# Altium schematic symbol library TransientBLE.SCHLIB: 64 symbols (part 1 of 2)
Pins are listed as number, name and electrical type; pins without a type are passive.

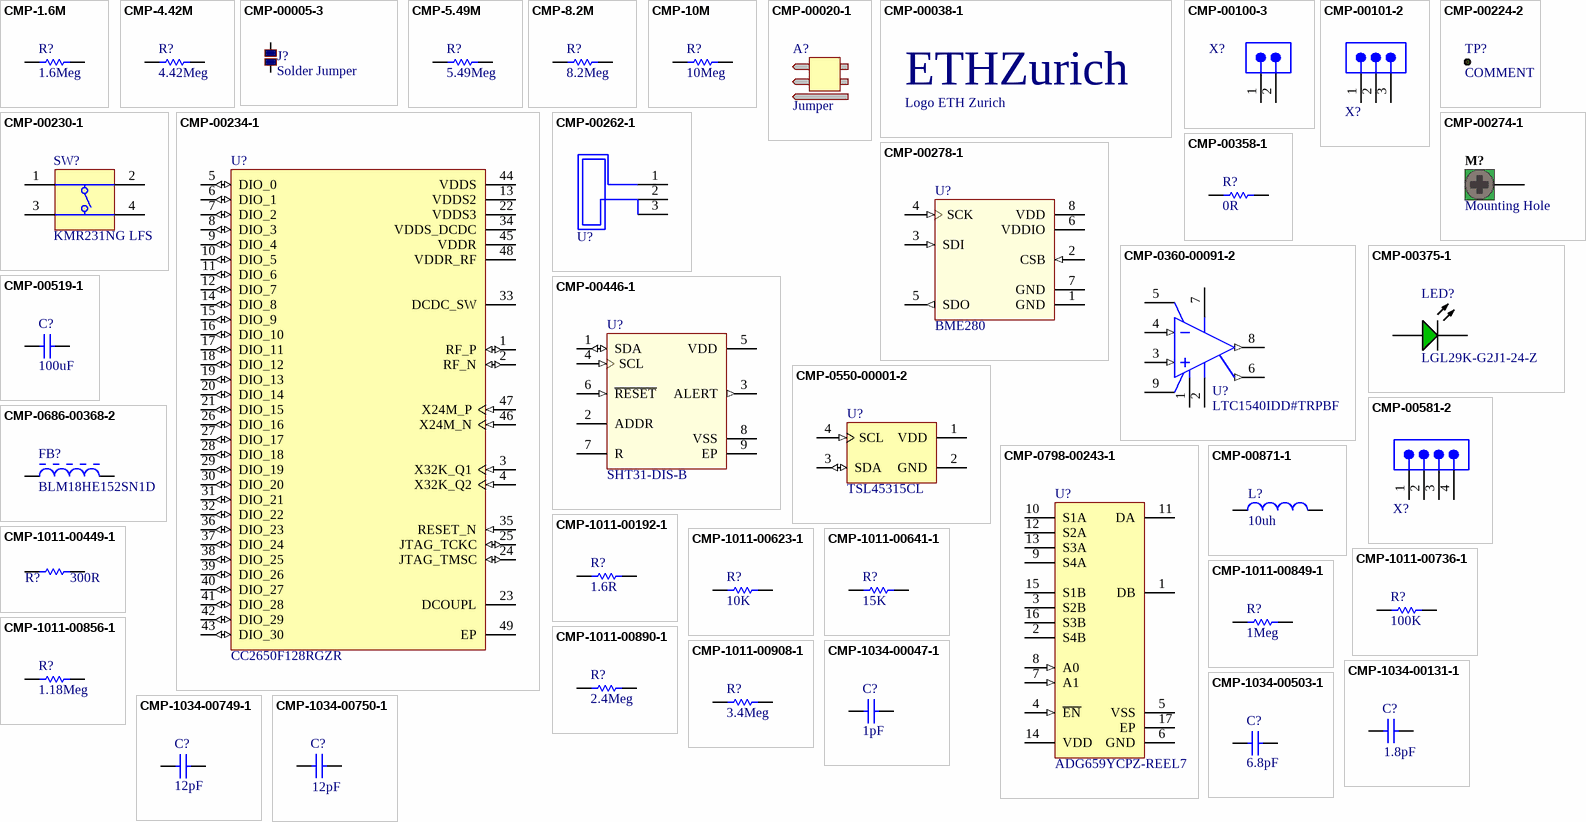
[diagram p0: symbols CMP-1.6M to CMP-1034-00750-1]

## CMP-1.6M
designator R?, comment value 1.6Meg  (hidden comment: 1.6M 1% 0402(1005))
1.6M 0.063W 1% 0402 (1005 Metric)  SMD; Case-EIA: 0402; Case-Metric: 1005; Power: 0.063 W; Tolerance: 1 %; Technology: SMT
footprint RESC0402(1005)_N (Chip Resistor, Body 1.0x0.5mm, IPC Medium Density)
footprint RESC0402(1005)_M (Chip Resistor, Body 1.0x0.5mm, IPC Low Density)
footprint RESC0402(1005)_L (Chip Resistor, Body 1.0x0.5mm, IPC High Density)
pins: 1, 2
1 alternate drawing of the same symbol

## CMP-4.42M
designator R?, comment value 4.42Meg  (hidden comment: 4.42M 1% 0402(1005))
4.42M 0.063W 1% 0402 (1005 Metric)  SMD; Case-EIA: 0402; Case-Metric: 1005; Power: 0.063 W; Tolerance: 1 %; Technology: SMT
footprint RESC0402(1005)_N (Chip Resistor, Body 1.0x0.5mm, IPC Medium Density)
footprint RESC0402(1005)_M (Chip Resistor, Body 1.0x0.5mm, IPC Low Density)
footprint RESC0402(1005)_L (Chip Resistor, Body 1.0x0.5mm, IPC High Density)
pins: 1, 2
1 alternate drawing of the same symbol

## CMP-00005-3
designator J?, comment Solder Jumper
Value: 1; Technology: SMT
simulation model SIM-001-0001-1 (Resistor generic model)
footprint Small Solder Jumper (Small Solder Jumper (shortcut with a drop of tin if needed))
footprint Big Solder Jumper (Big Solder Jumper (shortcut with a drop of tin if needed))
pins: 1, 2

## CMP-5.49M
designator R?, comment value 5.49Meg  (hidden comment: 5.49M 1% 0402(1005))
5.49M 0.063W 1% 0402 (1005 Metric)  SMD; Case-EIA: 0402; Case-Metric: 1005; Power: 0.063 W; Tolerance: 1 %; Technology: SMT
footprint RESC0402(1005)_N (Chip Resistor, Body 1.0x0.5mm, IPC Medium Density)
footprint RESC0402(1005)_M (Chip Resistor, Body 1.0x0.5mm, IPC Low Density)
footprint RESC0402(1005)_L (Chip Resistor, Body 1.0x0.5mm, IPC High Density)
pins: 1, 2
1 alternate drawing of the same symbol

## CMP-8.2M
designator R?, comment value 8.2Meg  (hidden comment: 8.2M 1% 0402(1005))
8.2M 0.1W 1% 0402 (1005 Metric)  SMD; Case-EIA: 0402; Case-Metric: 1005; Power: 0.1 W; Tolerance: 1 %; Technology: SMT
footprint RESC0402(1005)_N (Chip Resistor, Body 1.0x0.5mm, IPC Medium Density)
footprint RESC0402(1005)_M (Chip Resistor, Body 1.0x0.5mm, IPC Low Density)
footprint RESC0402(1005)_L (Chip Resistor, Body 1.0x0.5mm, IPC High Density)
pins: 1, 2
1 alternate drawing of the same symbol

## CMP-10M
designator R?, comment value 10Meg  (hidden comment: 10M 1% 0402(1005))
10M 0.063W 1% 0402 (1005 Metric)  SMD; Case-EIA: 0402; Case-Metric: 1005; Power: 0.063 W; Tolerance: 1 %; Technology: SMT
footprint RESC0402(1005)_N (Chip Resistor, Body 1.0x0.5mm, IPC Medium Density)
footprint RESC0402(1005)_M (Chip Resistor, Body 1.0x0.5mm, IPC Low Density)
footprint RESC0402(1005)_L (Chip Resistor, Body 1.0x0.5mm, IPC High Density)
pins: 1, 2
1 alternate drawing of the same symbol

## CMP-00020-1
designator A?, comment Jumper  (mechanical)
Jumper Receptacle 2.54mm; Size: 2.54mm

## CMP-00038-1
designator A?, comment Logo ETH Zurich  (no BOM)
footprint eth-zurich_3mm (Logo ETH Zurich)
footprint eth-zurich_2mm (Logo ETH Zurich)
footprint eth-zurich_4mm (Logo ETH Zurich)
footprint eth-zurich_5mm (Logo ETH Zurich)
text: ETHZurich

## CMP-00100-3
designator X?, comment 68000-102HLF  (value not drawn)
Manufacturer: Amphenol FCI; Pitch: 2.54mm; Number of Positions: 2; Connector Type: Male Pin; Current Rating: 3A; Gender: Male; Insulation Resistance: 5GR; Mating Post Length: 5.84mm; Max Voltage Rating (AC): 1.5kV; Packaging: Bulk; Supplier: Digikey; Supplier Part Number: 609-3500-ND; ComponentLink1Description: 68000-274228-5149165.pdf; ComponentLink1URL: https://datasheet.ciiva.com/5149/68000-274228-5149165.pdf; Manufacturer Part Number: 68000-102HLF; Number of Rows: 1; Termination: Solder; Contact Mating Length: 0.23inch; Case/Package: 100; Colour: Black; ComponentLink2Description: 68000-722084.pdf; ComponentLink2URL: https://datasheet.ciiva.com/722/68000-722084.pdf; ComponentLink3Description: 68000-10149324.pdf; ComponentLink3URL: https://datasheet.ciiva.com/10149/68000-10149324.pdf; ComponentLink4Description: 68000-16726309.pdf; ComponentLink4URL: https://datasheet.ciiva.com/16726/68000-16726309.pdf; Contact Gender: Male; Contact Material: Bronze; Contact Plating: Nickel,Gold,GXT; Depth: 2.41mm; Flammability Rating: UL94 V-0; Housing Colour: Black; Housing Material: Thermoplastic; Lead Free: Lead Free; Length: 5.08mm; Max Operating Temperature: 125°C; Min Operating Temperature: -65°C; Number of Contacts: 2; Orientation: Straight; Package Quantity: 100; Radiation Hardening: No; Termination Post Length: 2.41mm; Voltage Rating: 1.5kV; Voltage Rating (DC): 1.5kV
footprint 68000-102HLF (Terminal Assembly, 1x2 Pins, Vertical, 2.54mm Pitch, Male)
pins: 1, 2

## CMP-00101-2
designator X?, comment 68000-103HLF  (value not drawn)
3 Positions Header, Unshrouded Connector 0.100" (2.54mm) Through Hole Gold or Gold, GXT™; Manufacturer: Amphenol FCI; Current Rating: 3A; Insulation Resistance: 5GR; Number of Positions: 3; Max Voltage Rating (AC): 1.5kV; Termination: Solder; Fastening Type: -; Features: -; Contact Finish: Gold or Gold, GXT™; Contact Finish Thickness: 15µin (0.38µm); Color: Black; Supplier: Digikey; Supplier Part Number: 609-3461-ND; ComponentLink1Description: 68000-274283-5157301.pdf; ComponentLink1URL: https://datasheet.ciiva.com/5157/68000-274283-5157301.pdf; Depth: 2.41mm; Flammability Rating: UL94 V-0; Housing Colour: Black; Housing Material: Thermoplastic; Length: 7.62mm; Manufacturer Part Number: 68000-103HLF; Max Operating Temperature: 125°C; Packaging: Bulk; Contact Type: Male Pin; Connector Type: Header, Unshrouded; Pitch: 2.54mm; Number of Rows: 1; Contact Mating Length: 0.230" (5.84mm); Mounting Type: Through Hole; Min Operating Temperature: -65°C; Number of Contacts: 3; Orientation: Straight; Package Quantity: 100; Radiation Hardening: No; REACH SVHC: No SVHC; Termination Post Length: 2.41mm; Voltage Rating: 1.5kV; Contact Gender: Male; Contact Material: Bronze; Contact Plating: Nickel,Gold,GXT; ComponentLink2Description: 68000-731071.pdf; ComponentLink2URL: https://datasheet.ciiva.com/731/68000-731071.pdf; ComponentLink3Description: 68000-10149754.pdf; ComponentLink3URL: https://datasheet.ciiva.com/10149/68000-10149754.pdf; ComponentLink4Description: 1914865-46392021.pdf; ComponentLink4URL: https://datasheet.ciiva.com/46392/1914865-46392021.pdf
footprint 68000-103HLF (Terminal Assembly, 3 Pin, Vertical, 2.54mm Pitch, Male)
pins: 1, 2, 3

## CMP-00224-2
designator TP?, comment COMMENT  (no BOM)
0.6mm SMT Test Pad; Mounting Technology: SMT
footprint Pad-0.6mm (SMT Test Pad)
pins: 1 "Reserved. Connect to VDDIO."

## CMP-00230-1
designator SW?, comment KMR231NG LFS
SWITCH TACTILE SPST-NO 0.05A 32V; Manufacturer: C&K Components; Switch Function: Off-Mom; Contact Rating @ Voltage: 0.05A @ 32VDC; Actuator Type: Standard; Actuator Height off PCB, from Pins: 1.90mm; Actuator Orientation: Top Actuated; Outline: 4.60mm x 2.80mm; Illumination: Non-Illuminated; Operating Force: 300gf; Switch Travel: 0.25mm; Mechanical Life: 150,000 Cycles; Packaging: Cut Tape (CT); Part Status: Active; Circuit: SPST-NO; Mounting Type: Surface Mount; Termination Style: Gull Wing; Illumination Voltage (Nominal): -; Illumination Type, Color: -; Ingress Protection: -; Features: -; Actuator Material: -; Operating Temperature: -40°C ~ 85°C; Manufacturer Part Number: KMR231NG LFS; Supplier: Digi-Key; Supplier Part Number: CKN10246CT-ND; ComponentLink1Description: kmr2.pdf; ComponentLink1URL: http://www.ck-components.com/media/1479/kmr2.pdf
footprint KRM 2 Series (Tactile Switch SPST-NO Top Actuated Surface Mount)
pins: 1 T1, 2 T2, 3 T3, 4 T3

## CMP-00234-1
designator U?, comment CC2650F128RGZR
IC RF TxRx + MCU 802.15.4, Bluetooth 6LoWPAN, Bluetooth v4.1, Zigbee® 2.4GHz 48-VFQFN Exposed Pad; Manufacturer: Texas Instruments; Modulation: DSSS, O-QPSK, GFSK; Data Rate (Max): 1Mbps; Power - Output: 5dBm; Sensitivity: -100dBm; Memory Size: 128kB Flash, 28kB SRAM; Serial Interfaces: I²C, I²S, JTAG, SPI, UART; GPIO: 31; Voltage - Supply: 1.8 V ~ 3.8 V; Current - Receiving: 5.9mA ~ 6.1mA; Current - Transmitting: 6.1mA ~ 9.1mA; Packaging: Cut Tape (CT); Part Status: Active; Type: TxRx + MCU; RF Family/Standard: 802.15.4, Bluetooth; Protocol: 6LoWPAN, Bluetooth v4.1, Zigbee®; Frequency: 2.4GHz; Operating Temperature: -40°C ~ 85°C; Package / Case: 48-VFQFN Exposed Pad; Manufacturer Part Number: CC2650F128RGZR; Supplier: Digi-Key; Supplier Part Number: 296-44316-1-ND; ComponentLink1Description: cc2650; ComponentLink1URL: http://www.ti.com/lit/gpn/cc2650
footprint VFQFPN-48(7x7)_N (QFN, 48-Leads, Body 7x7mm, Pitch 0.5mm, Thermal Pad 5.15x5.15mm, IPC Medium Density)
footprint VFQFPN-48(7x7)_L (QFN, 48-Leads, Body 7x7mm, Pitch 0.5mm, Thermal Pad 5.15x5.15mm, IPC High Density)
footprint VFQFPN-48(7x7)_M (QFN, 48-Leads, Body 7x7mm, Pitch 0.5mm, Thermal Pad 5.15x5.15mm, IPC Low Density)
pins: 1 RF_P (io), 2 RF_N (io), 3 X32K_Q1 (in), 4 X32K_Q2 (in), 5 DIO_0 (io), 6 DIO_1 (io), 7 DIO_2 (io), 8 DIO_3 (io), 9 DIO_4 (io), 10 DIO_5 (io), 11 DIO_6 (io), 12 DIO_7 (io), 13 VDDS2 (power), 14 DIO_8 (io), 15 DIO_9 (io), 16 DIO_10 (io), 17 DIO_11 (io), 18 DIO_12 (io), 19 DIO_13 (io), 20 DIO_14 (io), 21 DIO_15 (io), 22 VDDS3 (power), 23 DCOUPL, 24 JTAG_TMSC (io), 25 JTAG_TCKC (io), 26 DIO_16 (io), 27 DIO_17 (io), 28 DIO_18 (io), 29 DIO_19 (io), 30 DIO_20 (io), 31 DIO_21 (io), 32 DIO_22 (io), 33 DCDC_SW (power), 34 VDDS_DCDC (power), 35 RESET_N (in), 36 DIO_23 (io), 37 DIO_24 (io), 38 DIO_25 (io), 39 DIO_26 (io), 40 DIO_27 (io), 41 DIO_28 (io), 42 DIO_29 (io), 43 DIO_30 (io), 44 VDDS (power), 45 VDDR (power), 46 X24M_N (in), 47 X24M_P (in), 48 VDDR_RF (power), 49 EP (power)

## CMP-00262-1
designator U?, comment Antenna Patch  (value not drawn)  (net tie, no BOM)
2.4GHz Inverted F Antenna; Technology: SMT
footprint 2.4GHz Inverted F Antenna (Antenna Patch, 2 pins, 1 side)
pins: 1, 2, 3

## CMP-00274-1
designator M?, comment Mounting Hole  (no BOM)
M2 Hole, 2.4mm drill, 5mm landing pads, 3mm pad in middle layers, no overlay; ClassName: Mounting Hole
footprint Hole M2 (M2 Hole, 2.4mm drill, 5mm landing pads, 3mm pad in middle layers, no overlay)
pins: 1

## CMP-00278-1
designator U?, comment BME280
PRESSURE HUMIDITY TEMP GAS SENS; Manufacturer: Bosch Sensortec; Pressure Type: Vented Gauge; Operating Pressure: 4.35 PSI ~ 15.95 PSI (30 kPa ~ 110 kPa); Output Type: I²C, SPI; Output: 16b; Accuracy: ±0.145 PSI (±1 kPa); Voltage - Supply: 1.71 V ~ 3.6 V; Maximum Pressure: ±290.08 PSI (±2000 kPa); Part Status: Active; Port Size: -; Port Style: -; Features: Standby Mode; Termination Style: SMD (SMT) Tab; Operating Temperature: -40°C ~ 85°C; Package / Case: 8-SMD; Supplier Device Package: 8-SMD; Manufacturer Part Number: BME280; Supplier: Digi-Key; Supplier Part Number: 828-1063-2-ND; ComponentLink1Description: BST-BME280_DS001-11.pdf; ComponentLink1URL: https://ae-bst.resource.bosch.com/media/_tech/media/datasheets/BST-BME280_DS001-11.pdf
footprint BME280 (LGA, 8-Leads, Body 2x2.50mmx0.95mm, Pitch 0.65mm)
pins: 1 GND (power), 2 CSB (in), 3 SDI (in), 4 SCK (in), 5 SDO (out), 6 VDDIO (power), 7 GND (power), 8 VDD (power)

## CMP-00358-1
designator R?, comment value 0R  (hidden comment: ERJ-3GEY0R00V)
RES SMD 0.0OHM JUMPER 1/10W 0603; Manufacturer: Panasonic / Panasonic ECG; EDA / CAD Models: Download from Accelerated Designs; Resistance (Ohms): 0.0; Power (Watts): 0.1W, 1/10W; Online Catalog: ERJ Series; Other Names: P0.0GDKR; Standard Package: 1; Category: Resistors; Family: Chip Resistor - Surface Mount; Series: ERJ; Packaging: Digi-Reel®; Tolerance: Jumper; Composition: Thick Film; Features: Automotive AEC-Q200; Temperature Coefficient: -; Operating Temperature: -55°C ~ 155°C; Package / Case: 0603 (1608 Metric); Supplier Device Package: 0603; Number of Terminations: 2; Manufacturer Part Number: ERJ-3GEY0R00V; Supplier: Digikey; Supplier Part Number: P0.0GTR-ND; ComponentLink1Description: 0900766b80f806dd-11808207.pdf; ComponentLink1URL: https://datasheet.ciiva.com/11808/0900766b80f806dd-11808207.pdf; ComponentLink2Description: 1935748-27055113.pdf; ComponentLink2URL: https://datasheet.ciiva.com/27055/1935748-27055113.pdf; ComponentLink3Description: 4aoa0000ce1-30199822.pdf; ComponentLink3URL: https://datasheet.ciiva.com/30199/4aoa0000ce1-30199822.pdf; ComponentLink4Description: 1678796-46377868.pdf; ComponentLink4URL: https://datasheet.ciiva.com/46377/1678796-46377868.pdf; ComponentLink5Description: 70255313-16758527.pdf; ComponentLink5URL: https://datasheet.ciiva.com/16758/70255313-16758527.pdf; ComponentLink6Description: aoa0000ce1-9198975.pdf; ComponentLink6URL: https://datasheet.ciiva.com/9198/aoa0000ce1-9198975.pdf; ComponentLink7Description: aoa0000ce1-17215388.pdf; ComponentLink7URL: https://datasheet.ciiva.com/17215/aoa0000ce1-17215388.pdf; ComponentLink8Description: 1678796-43460647.pdf; ComponentLink8URL: https://datasheet.ciiva.com/43460/1678796-43460647.pdf; ComponentLink9Description: aoa0000ce1-48532165.pdf; ComponentLink9URL: https://datasheet.ciiva.com/48532/aoa0000ce1-48532165.pdf; ComponentLink10Description: 1678796-28695833.pdf; ComponentLink10URL: https://datasheet.ciiva.com/28695/1678796-28695833.pdf; ComponentLink11Description: aoa0000ce1-16834828.pdf; ComponentLink11URL: https://datasheet.ciiva.com/16834/aoa0000ce1-16834828.pdf; ComponentLink12Description: 1678796-5959707.pdf; ComponentLink12URL: https://datasheet.ciiva.com/5959/1678796-5959707.pdf
simulation model SIM-001-0001-1 (Resistor generic model)
footprint RESC0603(1608)_N (Chip Resistor, Body 1.6x0.8mm, IPC Medium Density)
footprint RESC0603(1608)_L (Chip Resistor, Body 1.6x0.8mm, IPC High Density)
footprint RESC0603(1608)_M (Chip Resistor, Body 1.6x0.8mm, IPC Low Density)
pins: 1, 2
1 alternate drawing of the same symbol

## CMP-0360-00091-2
designator U?, comment LTC1540IDD#TRPBF
Nanopower Comparator with Reference, 1 Channel, 2 to 11 V, -40 to +85 degC, 8-pin Plastic DFN (DD8), Tape and Reel; Manufacturer: Linear Technology; Channels (#): 1; Vos (mV) Guaranteed: 12; Vs Min (V): 2; Prop Delay (us): 50; Supply Current (uA) Typical: 0.3; Supply Voltage Range: 2 to 11 V; Vs Max (V): 11; Supply Current (uA) Guaranteed: 0.68; ComponentLink2URL: http://cds.linear.com/docs/en/datasheet/1540fas.pdf; PackageDescription: 8-Pin Plastic DFN, Body 3 Ã— 3 mm, Pitch 0.5 mm; ComponentLink1URL: http://www.linear.com/; Vos (mV) Typical: 12; Generic Part Number: LTC1540; ComponentLink3Description: Package Specification; Features: Reference, Comparator; ComponentLink3URL: http://cds.linear.com/docs/en/packaging/DFN_8_05-08-1698.pdf; PartNumber: LTC1540IDD#TRPBF; DatasheetVersion: Rev A; RoHS: Y; Mounting Technology: Surface Mount; Code_JEDEC: M0-229; ComponentLink2Description: Datasheet; PackageReference: DD8; ComponentLink1Description: Manufacturer URL
footprint LT-DD8_V (SON, 8-Leads, Body 3x3mm, Pitch 0.5mm, Thermal Pad 2.38x1.65mm)
pins: 1 GND (power) "Ground. Connect to V- for single supply operation.", 2 V- (power) "Negative Supply. Potential should be more negative than GND. Connect to ground for single supply operation.", 3 IN+ (in) "Noninverting Comparator Input. Input common mode range from V- to V+ -1.3V. Input current typically 10pA at 25degreesC.", 4 IN- (in) "Inverting Comparator Input. Input common mode range from V- to V+ -1.3V. Input current typically 10pA at 25degreesC.", 5 HYST "Hysteresis Input. Connect to REF if not used. Input voltage range is from VREF to VREF-50mV.", 6 REF (out) "Reference Output. 1.182V with respect to V-. Can source up to 1mA and sink 10uA at 25degreesC. Drive 0.01uF bypass capacitor without oscillation.", 7 V+ (power) "Positive Supply operating voltage is from 2V to 11V.", 8 OUT (out) "Comparator CMOS Output. Swings from GND to V+. Output can source up to 40mA and sink 5mA.", 9 EP (power) "Exposed Pad"

## CMP-00375-1
designator LED?, comment LGL29K-G2J1-24-Z
LED GREEN DIFFUSED 0603 SMD; Manufacturer: Osram / OSRAM Opto Semiconductors; Millicandela Rating: 3.92mcd; Voltage - Forward (Vf) Typ: 1.7V; Current - Test: 2mA; Wavelength - Dominant: 570nm; Wavelength - Peak: 572nm; Viewing Angle: 160°; Lens Style/Size: Rectangle with Flat Top, 1.3mm x 0.8mm; Luminous Flux @ Current - Test: 12 mlm; Dynamic Catalog: Surface Mount; Other Names: 475-2709-6; Standard Package: 1; Category: Optoelectronics; Family: LEDs - Discrete; Series: SmartLED; Color: Green; Lens Type: Diffused; Package / Case: 0603 (1608 Metric); Size / Dimension: 1.70mm L x 0.80mm W; Height: 0.65mm; Mounting Type: Surface Mount; Packaging: Digi-Reel®; Manufacturer Part Number: LGL29K-G2J1-24-Z; Supplier: Digikey; Supplier Part Number: 475-2709-1-ND; ComponentLink1Description: g-l29k-39844-4689584.pdf; ComponentLink1URL: https://datasheet.ciiva.com/4689/g-l29k-39844-4689584.pdf; ComponentLink2Description: 00077107-0-2112888.pdf; ComponentLink2URL: https://datasheet.ciiva.com/2112/00077107-0-2112888.pdf; ComponentLink3Description: 00077107-0-2112887.pdf; ComponentLink3URL: https://datasheet.ciiva.com/2112/00077107-0-2112887.pdf; ComponentLink4Description: 00077107-0-2112886.pdf; ComponentLink4URL: https://datasheet.ciiva.com/2112/00077107-0-2112886.pdf
footprint 0603_A (Chip LED, 2-Leads, Body 1.6x0.8mm, IPC Medium Density)
pins: 1 A, 2 K

## CMP-00446-1
designator U?, comment SHT31-DIS-B
Humidity Sensor, 2 %, 3.3 V, 0% to 100% Relative Humidity, TDFN, 8 Pins, 8 s; Manufacturer: Sensirion; Sensor Function: Temperature & Humidity; Output Type: Digital; Interface Type: I2C; Accuracy: ±0.3 (Temperature) °C, ±2 (Humidity) %RH; Minimum Operating Supply Voltage: 2.4 V; Maximum Operating Supply Voltage: 5.5 V; Resolution: 0.05 (Humidity) %RH, 0.05 (Temperature) °C; Mounting Type: Surface Mount; Pin Count: 8; Minimum Operating Temperature: -40 °C; Maximum Operating Temperature: +125 °C; Package Type: DFN; Length: 2.6mm; Height: 1mm; Width: 2.6mm; Dimensions: 2.6 x 2.6 x 1mm; Manufacturer Part Number: SHT31-DIS-B; Supplier: Digikey; Supplier Part Number: 1649-1011-2-ND; ComponentLink1Description: 1905459.pdf; ComponentLink1URL: http://www.farnell.com/datasheets/1905459.pdf; ComponentLink2Description: 0900766b813ddc9f.pdf; ComponentLink2URL: http://uk.rs-online.com/webdocs/13dd/0900766b813ddc9f.pdf
footprint SON50P250X100_HS-9N (SON, 8-Leads, Body 2.50x2.50mm, Pitch 0.50mm, Thermal Pad 1.80x1.09mm, IPC Medium Density)
footprint SON50P250X100_HS-9L (SON, 8-Leads, Body 2.50x2.50mm, Pitch 0.50mm, Thermal Pad 1.80x1.09mm, IPC High Density)
footprint SON50P250X100_HS-9M (SON, 8-Leads, Body 2.50x2.50mm, Pitch 0.50mm, Thermal Pad 1.80x1.09mm, IPC Low Density)
pins: 1 SDA (io), 2 ADDR, 3 ALERT (out), 4 SCL (in), 5 VDD (power), 6 ~{RESET} (in), 7 R, 8 VSS (power), 9 EP (power)

## CMP-00519-1
designator C?, comment value 100uF  (hidden comment: GRM32ER61A107ME20L)
Cap Ceramic 100uF 10V X5R 20% SMD 1210 85C Embossed T/R; Manufacturer: Murata; Voltage Rating DC: 10 VDC; Brand: Murata Electronics; Type: Voltage and Temperature Derating Recommended Product; Unit Weight: 0.003880 oz; Product Category: Multilayer Ceramic Capacitors MLCC - SMD/SMT; RoHS: True; Capacitance: 100 uF; Dielectric: X5R; Tolerance: 20 %; Case Code - in: 1210; Case Code - mm: 3225; Height: 2.5 mm; Maximum Operating Temperature: + 85 C; Minimum Operating Temperature: - 55 C; Product: General Type MLCCs; Series: GRM; Packaging: Reel; Length: 3.2 mm; Package / Case: 1210 (3225 metric); Factory Pack Quantity: 1000; Termination Style: SMD/SMT; Width: 2.5 mm; Manufacturer Part Number: GRM32ER61A107ME20L; Supplier: Digikey; Supplier Part Number: 490-9969-2-ND; ComponentLink1Description: c02e-2905.pdf; ComponentLink1URL: http://www.mouser.com/ds/2/281/c02e-2905.pdf; ComponentLink2Description: 0323_06932945; ComponentLink2URL: http://components.arrow.com/part/dataview/0323_06932945; ComponentLink3Description: GRM32ER61A107ME20%23.pdf; ComponentLink3URL: http://psearch.en.murata.com/capacitor/product/GRM32ER61A107ME20%23.pdf; ComponentLink4Description: 2079200.pdf; ComponentLink4URL: http://www.farnell.com/datasheets/2079200.pdf
simulation model SIM-00001-1 (Capacitor generic model)
footprint CAPC1210(3225)280_N (Chip Capacitor, Body 3.2x2.5mm, Height 2.8mm, IPC Medium Density)
footprint CAPC1210(3225)280_L (Chip Capacitor, Body 3.2x2.5mm, Height 2.8mm, IPC High Density)
footprint CAPC1210(3225)280_M (Chip Capacitor, Body 3.2x2.5mm, Height 2.8mm, IPC Low Density)
pins: 1, 2
1 alternate drawing of the same symbol

## CMP-0550-00001-2
designator U?, comment TSL45315CL
Digital Ambient Light Sensor with Direct Lux Output, 2.3 to 3.3 V, CL-4, Pb-Free, Reel; Manufacturer: AMS; Interface: I2C - Vdd; Supply Voltage (V): 2.3 - 3.3; Programmable: Integration Time - 100, 200, 400 mS; Maximum Lux: 220000; Mounting Technology: Surface Mount; ComponentLink2Description: Datasheet; PackageVersion: TAOS112A, 10/2012; ComponentLink2URL: http://www.ams.com/eng/content/download/320004/1118282/183099; PartNumber: TSL45315CL; ComponentLink1URL: www.ams.com; ComponentLink1Description: Manufacturer URL; DatasheetVersion: TAOS112A; PackageReference: CL-4; PackageDescription: 4-Pin ChipLED, 2 x 2 mm Body
footprint AMS-CL-4-2000X2000DE_V (CL, 4-Leads, Body 2x2mm)
pins: 1 VDD (power) "Supply voltage.", 2 GND (power) "Power supply ground. All voltages are referenced to GND.", 3 SDA (io) "I2C serial data I/O terminal - bidirectional.", 4 SCL (in) "I2C serial clock input terminal."

## CMP-00581-2
designator X?, comment 68000-104HLF  (value not drawn)
4 Positions Header, Unshrouded Connector 0.100" (2.54mm) Through Hole Gold or Gold, GXT™; Manufacturer: Amphenol FCI; Gender: Male; Number of Positions: 4; Connector Type: Male Pin; Current Rating: 3A; Voltage Rating: 1.5kV; Insulation Resistance: 5GR; Mating Post Length: 5.84mm; Packaging: Bulk; Supplier: Digikey; Supplier Part Number: 609-3248-ND; ComponentLink1Description: 1914865-46395854.pdf; ComponentLink1URL: https://datasheet.ciiva.com/46395/1914865-46395854.pdf; Pitch: 2.54mm; Orientation: Straight; ComponentLink2Description: 68000-728879.pdf; ComponentLink3URL: https://datasheet.ciiva.com/16726/68000-16726213.pdf; ComponentLink3Description: 68000-16726213.pdf; ComponentLink2URL: https://datasheet.ciiva.com/728/68000-728879.pdf; Manufacturer Part Number: 68000-104HLF; Number of Rows: 1; Termination: Solder; Contact Material: Bronze; Contact Mating Length: 0.23inch; Length: 10.16mm; Housing Material: Thermoplastic; Number of Contacts: 4; Case/Package: 100; Min Operating Temperature: -65°C; Max Operating Temperature: 125°C; Package Quantity: 100; Radiation Hardening: No; ComponentLink4Description: 68000-10149830.pdf; ComponentLink4URL: https://datasheet.ciiva.com/10149/68000-10149830.pdf; Colour: Black; Contact Plating: Nickel,Gold,GXT; Depth: 2.41mm; Flammability Rating: UL94 V-0; REACH SVHC: No SVHC; Housing Colour: Black; Max Voltage Rating (AC): 1.5kV; Contact Gender: Male; Termination Post Length: 2.41mm
footprint 68000-104HLF (CONN HEADER 4POS .100 STR 30AU)
pins: 1, 2, 3, 4

## CMP-0686-00368-2
designator FB?, comment BLM18HE152SN1D
Chip Ferrite Bead for GHz Band High-speed Signal Lines, 1500 Ohm, 500 mA, -55 to 125 degC, 1.6 x 0.8 x 0.95 mm SMD, Tape and Reel; Manufacturer: Murata; Rated Current: 500 mA; Impedance (at 100 MHz): 1500 Ohm +/- 25%; DC Resistance: 0.50 Ohm Max.; Packing: Tape and Reel; DatasheetVersion: 08/2013; ComponentLink1URL: http://www.murata.com/; Mounting Technology: Surface Mount; ComponentLink2URL: http://www.murata.com/products/catalog/pdf/c31e.pdf; ComponentLink3Description: Package Specification; ComponentLink2Description: Datasheet; PackageReference: BLM18_H950-2; ComponentLink1Description: Manufacturer URL; PackageDescription: 2-Pin Chip, Body 1.6 x 0.8 mm; ComponentLink3URL: http://www.murata.com/products/catalog/pdf/c31e.pdf; PartNumber: BLM18HE152SN1D; Operating Temperature Range: -55 to 125 degC
footprint MURA-BLM18-RF-H4-CHIP-2_V (Chip Ferrite Bead, 2-Leads, Body 1.6x0.8mm, Height 0.95mm, Reflow)
footprint MURA-BLM18-F-H1-CHIP-2_V (Chip Ferrite Bead, 2-Leads, Body 1.6x0.8mm, Height 0.95mm, Flow)
pins: 1, 2

## CMP-0798-00243-1
designator U?, comment ADG659YCPZ-REEL7
3 V / 5 V / +/-5 V CMOS 4-Channel Analog Multiplexer, -40 to 85 degC, 16-pin QFN (CP-16-4), Reel; Manufacturer: Analog Devices; Ron (ohms): 45; Max Analog Signal Range: Vss to Vdd; t transition (s): 80n; Bandwidth (Hz): 400M; Supply V Guar Performance: Dual_(+/-5V), Single_(+3.3V), Single_(+3V), Single_(+5V); DatasheetVersion: Rev. B; PackageVersion: 010606-0, 01/2006; PackageReference: CP-16-4; Packing: Reel; Mounting Technology: Surface Mount; ComponentLink3URL: http://www.analog.com/static/imported-files/packages/46009454504174339653421710019CP_16_4.pdf; ComponentLink2Description: Datasheet; ComponentLink3Description: Package Specification; Code_JEDEC: MO-220-VGGC; PackageDescription: 16-Pin Lead Frame Chip Scale Package, Body 4 x 4 mm, Pitch 0.65 mm; ComponentLink1Description: Manufacturer URL; ComponentLink2URL: http://www.analog.com/static/imported-files/data_sheets/ADG658_659.pdf; ComponentLink1URL: http://www.analog.com/en/index.html; PartNumber: ADG659YCPZ-REEL7
footprint CP-16-4_L (QFN, 16-Leads, Body 4x4mm, Pitch 0.65mm, Thermal Pad 2.1x2.1mm, IPC High Density)
footprint CP-16-4_M (QFN, 16-Leads, Body 4x4mm, Pitch 0.65mm, Thermal Pad 2.1x2.1mm, IPC Low Density)
footprint CP-16-4_N (QFN, 16-Leads, Body 4x4mm, Pitch 0.65mm, Thermal Pad 2.1x2.1mm, IPC Medium Density)
pins: 1 DB "Drain Terminal. May be an input or output.", 2 S4B "Source Terminal. May be an input or output", 3 S2B "Source Terminal. May be an input or output", 4 ~{EN} (in) "Active Low Digital Input. When high, device is disabled and all switches are OFF. When low, AX logic inputs determine ON switch.", 5 VSS (power) "Most Negative Power Supply Potential.", 6 GND (power) "Ground (0 V) Reference.", 7 A1 (in) "Logic Control Input", 8 A0 (in) "Logic Control Input", 9 S4A "Source Terminal. May be an input or output", 10 S1A "Source Terminal. May be an input or output", 11 DA "Drain Terminal. May be an input or output.", 12 S2A "Source Terminal. May be an input or output", 13 S3A "Source Terminal. May be an input or output", 14 VDD (power) "Most Positive Power Supply Potential.", 15 S1B "Source Terminal. May be an input or output", 16 S3B "Source Terminal. May be an input or output", 17 EP "Exposed pad."

## CMP-00871-1
designator L?, comment Inductance: 10uh  (hidden comment: CKS2125100M-T)
FIXED IND 10UH 110MA 520 MOHM; Core Material: Ferrite; Tolerance: 20%; Shielding: Unshielded; Self Resonant Frequency: 24MHz; DC Resistance (DCR): 520mR; Test Frequency: 2MHz; Mount: Surface Mount; Case/Package: 0805; Case Code (Metric): 2012; Case Code (Imperial): 0805; Min Operating Temperature: -40°C; Max Operating Temperature: 85°C; Package Quantity: 2000; Current Rating: 110mA; Packaging: Tape and Reel; Inductance Tolerance: 20%; Max DC Current: 110mA; Termination: SMD/SMT; DC Current: 110mA; Military Standard: Not; Length: 2mm; Height: 1.25mm; Width: 0.049inch; Height - Seated (Max): 0.057inch; Depth: 1.45mm; Radiation Hardening: No; REACH SVHC: Unknown; Lead Free: Lead Free; Halogen Free: Halogen Free
footprint INDC0805(2012)X11_N (Chip Inductor, 2-Leads, Body 2.00x1.25mm, IPC Medium Density)
footprint INDC0805(2012)X11_L (Chip Inductor, 2-Leads, Body 2.00x1.25mm, IPC High Density)
footprint INDC0805(2012)X11_M (Chip Inductor, 2-Leads, Body 2.00x1.25mm, IPC Low Density)
pins: 1, 2

## CMP-1011-00192-1
designator R?, comment value 1.6R  (hidden comment: 1R6 1% 0402(1005))
1R6 0.063W 1% 0402 (1005 Metric)  SMD; Case-EIA: 0402; Case-Metric: 1005; Tolerance: 1 %; Technology: SMT; Power: 0.063 W
footprint RESC0402(1005)_M (Chip Resistor, Body 1.0x0.5mm, IPC Low Density)
footprint RESC0402(1005)_N (Chip Resistor, Body 1.0x0.5mm, IPC Medium Density)
footprint RESC0402(1005)_L (Chip Resistor, Body 1.0x0.5mm, IPC High Density)
pins: 1, 2
1 alternate drawing of the same symbol

## CMP-1011-00449-1
designator R?, comment value 300R  (hidden comment: 300R 1% 0402(1005))
300R 0.063W 1% 0402 (1005 Metric)  SMD; Case-EIA: 0402; Case-Metric: 1005; Technology: SMT; Power: 0.063 W; Tolerance: 1 %
footprint RESC0402(1005)_N (Chip Resistor, Body 1.0x0.5mm, IPC Medium Density)
footprint RESC0402(1005)_M (Chip Resistor, Body 1.0x0.5mm, IPC Low Density)
footprint RESC0402(1005)_L (Chip Resistor, Body 1.0x0.5mm, IPC High Density)
pins: 1, 2
1 alternate drawing of the same symbol

## CMP-1011-00623-1
designator R?, comment value 10K  (hidden comment: 10K 1% 0402(1005))
10K 0.063W 1% 0402 (1005 Metric)  SMD; Case-EIA: 0402; Case-Metric: 1005; Power: 0.063 W; Tolerance: 1 %; Technology: SMT
footprint RESC0402(1005)_N (Chip Resistor, Body 1.0x0.5mm, IPC Medium Density)
footprint RESC0402(1005)_M (Chip Resistor, Body 1.0x0.5mm, IPC Low Density)
footprint RESC0402(1005)_L (Chip Resistor, Body 1.0x0.5mm, IPC High Density)
pins: 1, 2
1 alternate drawing of the same symbol

## CMP-1011-00641-1
designator R?, comment value 15K  (hidden comment: 15K 1% 0402(1005))
15K 0.063W 1% 0402 (1005 Metric)  SMD; Case-EIA: 0402; Case-Metric: 1005; Tolerance: 1 %; Technology: SMT; Power: 0.063 W
footprint RESC0402(1005)_M (Chip Resistor, Body 1.0x0.5mm, IPC Low Density)
footprint RESC0402(1005)_N (Chip Resistor, Body 1.0x0.5mm, IPC Medium Density)
footprint RESC0402(1005)_L (Chip Resistor, Body 1.0x0.5mm, IPC High Density)
pins: 1, 2
1 alternate drawing of the same symbol

## CMP-1011-00736-1
designator R?, comment value 100K  (hidden comment: 100K 1% 0402(1005))
100K 0.063W 1% 0402 (1005 Metric)  SMD; Case-EIA: 0402; Case-Metric: 1005; Tolerance: 1 %; Power: 0.063 W; Technology: SMT
footprint RESC0402(1005)_M (Chip Resistor, Body 1.0x0.5mm, IPC Low Density)
footprint RESC0402(1005)_N (Chip Resistor, Body 1.0x0.5mm, IPC Medium Density)
footprint RESC0402(1005)_L (Chip Resistor, Body 1.0x0.5mm, IPC High Density)
pins: 1, 2
1 alternate drawing of the same symbol

## CMP-1011-00849-1
designator R?, comment value 1Meg  (hidden comment: 1M 1% 0402(1005))
1M 0.063W 1% 0402 (1005 Metric)  SMD; Case-EIA: 0402; Case-Metric: 1005; Power: 0.063 W; Tolerance: 1 %; Technology: SMT
footprint RESC0402(1005)_M (Chip Resistor, Body 1.0x0.5mm, IPC Low Density)
footprint RESC0402(1005)_L (Chip Resistor, Body 1.0x0.5mm, IPC High Density)
footprint RESC0402(1005)_N (Chip Resistor, Body 1.0x0.5mm, IPC Medium Density)
pins: 1, 2
1 alternate drawing of the same symbol

## CMP-1011-00856-1
designator R?, comment value 1.18Meg  (hidden comment: 1M18 1% 0402(1005))
1M18 0.063W 1% 0402 (1005 Metric)  SMD; Case-EIA: 0402; Case-Metric: 1005; Technology: SMT; Power: 0.063 W; Tolerance: 1 %
footprint RESC0402(1005)_N (Chip Resistor, Body 1.0x0.5mm, IPC Medium Density)
footprint RESC0402(1005)_M (Chip Resistor, Body 1.0x0.5mm, IPC Low Density)
footprint RESC0402(1005)_L (Chip Resistor, Body 1.0x0.5mm, IPC High Density)
pins: 1, 2
1 alternate drawing of the same symbol

## CMP-1011-00890-1
designator R?, comment value 2.4Meg  (hidden comment: 2M4 1% 0402(1005))
2M4 0.063W 1% 0402 (1005 Metric)  SMD; Case-Metric: 1005; Case-EIA: 0402; Power: 0.063 W; Technology: SMT; Tolerance: 1 %
footprint RESC0402(1005)_L (Chip Resistor, Body 1.0x0.5mm, IPC High Density)
footprint RESC0402(1005)_N (Chip Resistor, Body 1.0x0.5mm, IPC Medium Density)
footprint RESC0402(1005)_M (Chip Resistor, Body 1.0x0.5mm, IPC Low Density)
pins: 1, 2
1 alternate drawing of the same symbol

## CMP-1011-00908-1
designator R?, comment value 3.4Meg  (hidden comment: 3M4 1% 0402(1005))
3M4 0.063W 1% 0402 (1005 Metric)  SMD; Case-EIA: 0402; Case-Metric: 1005; Power: 0.063 W; Technology: SMT; Tolerance: 1 %
footprint RESC0402(1005)_L (Chip Resistor, Body 1.0x0.5mm, IPC High Density)
footprint RESC0402(1005)_M (Chip Resistor, Body 1.0x0.5mm, IPC Low Density)
footprint RESC0402(1005)_N (Chip Resistor, Body 1.0x0.5mm, IPC Medium Density)
pins: 1, 2
1 alternate drawing of the same symbol

## CMP-1034-00047-1
designator C?, comment value 1pF  (hidden comment: CAP 1pF 10V 0402(1005))
CAP 1pF 10V ±0.1pF 0402 (1005 Metric) Thickness 0.6mm SMD; Tolerance: Â±0.1pF; Case-EIA: 0402; Case-Metric: 1005; Max Thickness: 0.6 mm; Technology: SMT; Rated Voltage: 10 V
footprint CAPC0402(1005)60_L (Chip Capacitor, Body 1.0x0.5mm, Height 0.6mm, IPC High Density)
footprint CAPC0402(1005)60_N (Chip Capacitor, Body 1.0x0.5mm, Height 0.6mm, IPC Medium Density)
footprint CAPC0402(1005)60_M (Chip Capacitor, Body 1.0x0.5mm, Height 0.6mm, IPC Low Density)
pins: 1, 2
1 alternate drawing of the same symbol

## CMP-1034-00131-1
designator C?, comment value 1.8pF  (hidden comment: CAP 1.8pF 10V 0402(1005))
CAP 1.8pF 10V ±0.1pF 0402 (1005 Metric) Thickness 0.6mm SMD; Case-EIA: 0402; Tolerance: Â±0.1pF; Case-Metric: 1005; Rated Voltage: 10 V; Technology: SMT; Max Thickness: 0.6 mm
footprint CAPC0402(1005)60_L (Chip Capacitor, Body 1.0x0.5mm, Height 0.6mm, IPC High Density)
footprint CAPC0402(1005)60_N (Chip Capacitor, Body 1.0x0.5mm, Height 0.6mm, IPC Medium Density)
footprint CAPC0402(1005)60_M (Chip Capacitor, Body 1.0x0.5mm, Height 0.6mm, IPC Low Density)
pins: 1, 2
1 alternate drawing of the same symbol

## CMP-1034-00503-1
designator C?, comment value 6.8pF  (hidden comment: CAP 6.8pF 10V 0402(1005))
CAP 6.8pF 10V ±5% 0402 (1005 Metric) Thickness 0.6mm SMD; Case-EIA: 0402; Case-Metric: 1005; Tolerance: Â±5%; Technology: SMT; Rated Voltage: 10 V; Max Thickness: 0.6 mm
footprint CAPC0402(1005)60_L (Chip Capacitor, Body 1.0x0.5mm, Height 0.6mm, IPC High Density)
footprint CAPC0402(1005)60_N (Chip Capacitor, Body 1.0x0.5mm, Height 0.6mm, IPC Medium Density)
footprint CAPC0402(1005)60_M (Chip Capacitor, Body 1.0x0.5mm, Height 0.6mm, IPC Low Density)
pins: 1, 2
1 alternate drawing of the same symbol

## CMP-1034-00749-1
designator C?, comment value 12pF  (hidden comment: CAP 12pF 10V 0402(1005))
CAP 12pF 10V ±1% 0402 (1005 Metric) Thickness 0.6mm SMD; Tolerance: Â±1%; Case-EIA: 0402; Case-Metric: 1005; Technology: SMT; Max Thickness: 0.6 mm; Rated Voltage: 10 V
footprint CAPC0402(1005)60_L (Chip Capacitor, Body 1.0x0.5mm, Height 0.6mm, IPC High Density)
footprint CAPC0402(1005)60_M (Chip Capacitor, Body 1.0x0.5mm, Height 0.6mm, IPC Low Density)
footprint CAPC0402(1005)60_N (Chip Capacitor, Body 1.0x0.5mm, Height 0.6mm, IPC Medium Density)
pins: 1, 2
1 alternate drawing of the same symbol

## CMP-1034-00750-1
designator C?, comment value 12pF  (hidden comment: CAP 12pF 10V 0402(1005))
CAP 12pF 10V ±2% 0402 (1005 Metric) Thickness 0.6mm SMD; Tolerance: Â±2%; Case-EIA: 0402; Case-Metric: 1005; Max Thickness: 0.6 mm; Rated Voltage: 10 V; Technology: SMT
footprint CAPC0402(1005)60_N (Chip Capacitor, Body 1.0x0.5mm, Height 0.6mm, IPC Medium Density)
footprint CAPC0402(1005)60_M (Chip Capacitor, Body 1.0x0.5mm, Height 0.6mm, IPC Low Density)
footprint CAPC0402(1005)60_L (Chip Capacitor, Body 1.0x0.5mm, Height 0.6mm, IPC High Density)
pins: 1, 2
1 alternate drawing of the same symbol

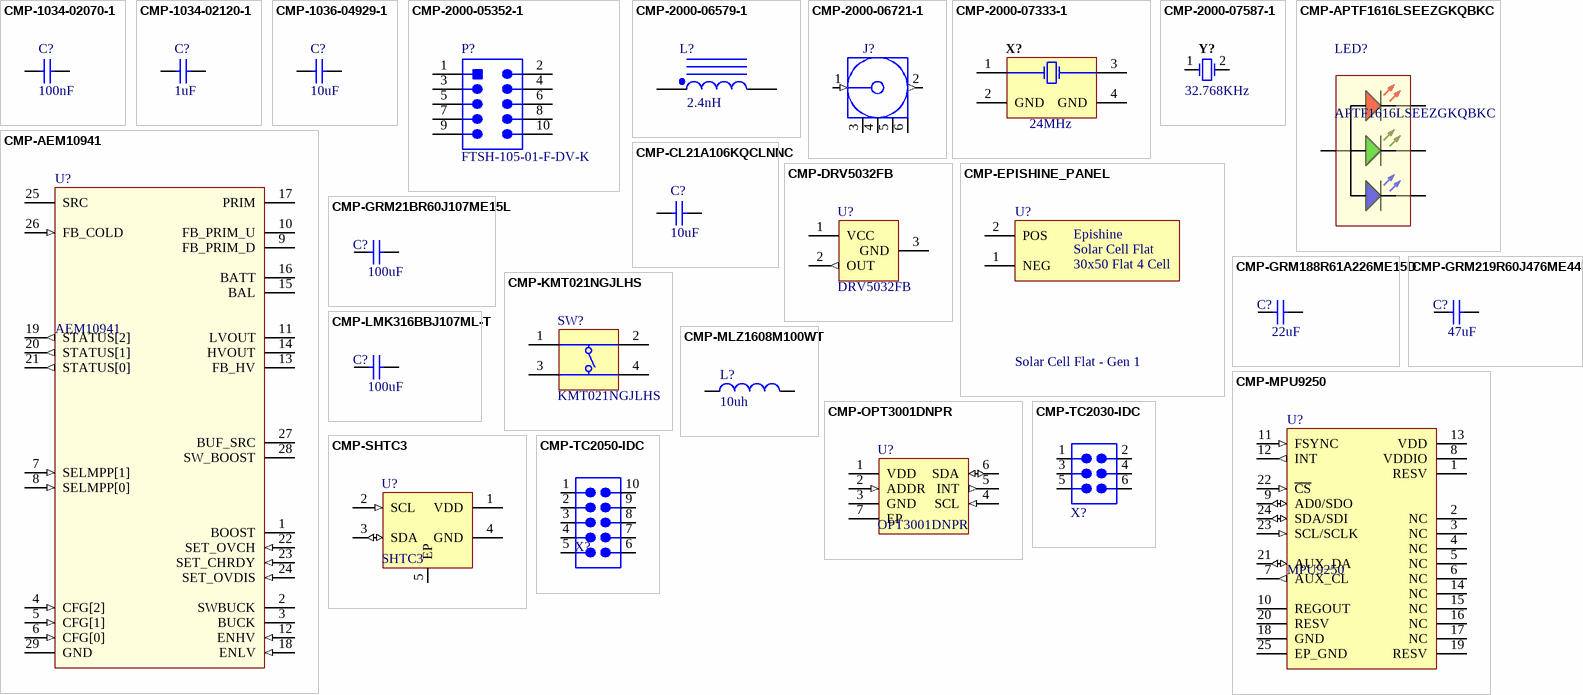
[diagram p1: symbols CMP-1034-02070-1 to CMP-TC2050-IDC]

## CMP-1034-02070-1
designator C?, comment value 100nF  (hidden comment: CAP 100nF 16V 0402(1005))
CAP 100nF 16V ±20% 0402 (1005 Metric) Thickness 0.6mm SMD; Case-EIA: 0402; Tolerance: Â±20%; Case-Metric: 1005; Technology: SMT; Rated Voltage: 16 V; Max Thickness: 0.6 mm
footprint CAPC0402(1005)60_M (Chip Capacitor, Body 1.0x0.5mm, Height 0.6mm, IPC Low Density)
footprint CAPC0402(1005)60_L (Chip Capacitor, Body 1.0x0.5mm, Height 0.6mm, IPC High Density)
footprint CAPC0402(1005)60_N (Chip Capacitor, Body 1.0x0.5mm, Height 0.6mm, IPC Medium Density)
pins: 1, 2
1 alternate drawing of the same symbol

## CMP-1034-02120-1
designator C?, comment value 1uF  (hidden comment: CAP 1uF 16V 0402(1005))
CAP 1uF 16V ±20% 0402 (1005 Metric) Thickness 0.6mm SMD; Case-Metric: 1005; Tolerance: Â±20%; Case-EIA: 0402; Rated Voltage: 16 V; Max Thickness: 0.6 mm; Technology: SMT
footprint CAPC0402(1005)60_M (Chip Capacitor, Body 1.0x0.5mm, Height 0.6mm, IPC Low Density)
footprint CAPC0402(1005)60_L (Chip Capacitor, Body 1.0x0.5mm, Height 0.6mm, IPC High Density)
footprint CAPC0402(1005)60_N (Chip Capacitor, Body 1.0x0.5mm, Height 0.6mm, IPC Medium Density)
pins: 1, 2
1 alternate drawing of the same symbol

## CMP-1036-04929-1
designator C?, comment value 10uF  (hidden comment: CAP 10uF 16V 0805(2012))
CAP 10uF 16V ±20% 0805 (2012 Metric) Thickness 1.45mm SMD; Tolerance: Â±20%; Case-EIA: 0805; Case-Metric: 2012; Rated Voltage: 16 V; Technology: SMT; Max Thickness: 1.45 mm
footprint CAPC0805(2012)145_M (Chip Capacitor, Body 2.0x1.2mm, Height 1.45mm, IPC Low Density)
footprint CAPC0805(2012)145_L (Chip Capacitor, Body 2.0x1.2mm, Height 1.45mm, IPC High Density)
footprint CAPC0805(2012)145_N (Chip Capacitor, Body 2.0x1.2mm, Height 1.45mm, IPC Medium Density)
pins: 1, 2
1 alternate drawing of the same symbol

## CMP-2000-05352-1
designator P?, comment FTSH-105-01-F-DV-K
Male Header, Pitch 1.27 mm, 2 x 5 Position, Height 6.12 mm, RoHS, Tube; Manufacturer: Samtec; Number of Positions: 10; Connector Type: Header,Shrouded; Number of Positions Loaded: All; Row Spacing: 0.050"(1.27mm); Fastening Type: -; Package Reference: FTSH-105-01-L-DV-K; Termination: Solder; Package URL: http://suddendocs.samtec.com/prints/ftsh-1xx-xx-xxx-dv-xxx-footprint.pdf; Number of Rows: 2; Contact Finish Thickness: 3µin(0.08µm); Contact Type: MalePin; Manufacturer URL: http://www.samtec.com/; Contact Mating Length: 0.120"(3.05mm); Pitch: 0.050"(1.27mm); Series: FTSH; Features: -; Contact Finish: Gold; Color: Black; Family: RectangularConnectors-Headers,MalePins; Datasheet URL: http://suddendocs.samtec.com/prints/ftsh-1xx-xx-xxx-dv-xxx-mkt.pdf; Package Description: Male Header, Pitch 1.27 mm, 2 x 5 Position, Height 5.97 mm, Tail Length 4.32 mm; Mounting Type: SurfaceMount; Datasheet Version: Rev. ET, 10/1995; Category: Connectors,Interconnects; Packaging: Tube
footprint SMTC-FTSH-105-01-L-DV-K_V (CONN, 10-Leads, Body 6.35x3.43mm, Pitch 1.27mm)
pins: 1, 2, 3, 4, 5, 6, 7, 8, 9, 10

## CMP-2000-06579-1
designator L?, comment Inductance: 2.4nH  (hidden comment: LQG15HS2N4S02D)
Chip Inductor, 2.4 nH, +/- 0.3 nH, 300 mA, -55 to 125 degC, 0402 (1005 Metric), RoHS, Tape and Reel; Manufacturer: MurataElectronics; Core Material: Air; Minimum Quality Factor: 8@100MHz; Tolerance: 0.3nH; Maximum DC Resistance: 150mOhm; Type: RFChip; Maximum DC Current: 300mA; Product Height: 0.55mm; Datasheet URL: http://search.murata.co.jp/Ceramy/image/img/PDF/ENG/L0075S0083LQG15HS.pdf; Mounting Technology: SurfaceMount; Package Reference: 0402; Package Description: 2-Pin Surface Mount Device, Body 1 x 0.5 mm; Category: InductorSurfaceMount; Manufacturer URL: http://www.murata.com/; Package/Case: 0402; Datasheet Version: 09/2010
footprint INDC1005X55X25LL05T10_A (Chip Inductor, 2-Leads, Body 1.05x0.55mm, IPC High Density)
footprint INDC1005X55X25ML05T10_A (Chip Inductor, 2-Leads, Body 1.05x0.55mm, IPC Low Density)
footprint INDC1005X55X25NL05T10_A (Chip Inductor, 2-Leads, Body 1.05x0.55mm, IPC Medium Density)
pins: 1, 2

## CMP-2000-06721-1
designator J?, comment MM8130-2600RA2  (value not drawn)
Socket, 250 V, 50 Ohm, -40 to 85 degC, 6-Pin SMD, RoHS, Tape and Reel; Manufacturer: Murata; Connector Type: Jack,FemaleSocket; Impedance: 50Ohm; Frequency - Max: 6GHz; Catalog Drawings: MM8130Series; Featured Product: MicrowaveSWFSwitchConnector; Shield Termination: Solder; Other Names: 490-4981-6; Product Training Modules: RFSwitchConnectors; Connector Style: SWF; Online Catalog: SWF,8130Series; Package Reference: MM8130-2600RA2; Body Finish: -; Datasheet Version: 06/2006; Housing Color: Gold; Cable Group: -; Fastening Type: Push-Pull; Dielectric Material: -; Operating Temperature: -40°C~85°C; Center Contact Material: -; Voltage Rating: -; Mounting Technology: SurfaceMount; Center Contact Plating: -; Features: InternalSwitch; Category: Connectors,Interconnects; Mounting Type: SurfaceMount; Package Description: 6-Pin Surface Mount Device, Body 2.5 x 2.5 mm; Ingress Protection: -; Datasheet URL: https://datasheet.ciiva.com/14157/04615200-1-14157602.pdf; Contact Termination: Solder; Family: CoaxialConnectors(RF); Manufacturer URL: http://www.murata.com/; Packaging: Digi-Reel®; Series: 8130; Body Material: -; Standard Package: 1
footprint MURA-MM8130-2600RA2_V (SMD, 6-Leads, Body 2.5x2.5mm)
pins: 1 IN (in), 2 OUT (out), 3 GND (power), 4 GND (power), 5 GND (power), 6 GND (power)

## CMP-2000-07333-1
designator X?, comment Frequency: 24MHz  (hidden comment: TSX-3225 24.0000MF15X-AC3)
MHz Range Crystal, 24 MHz, -40 to 85 degC, 4-Pin SMD, RoHS, Tape and Reel; Manufacturer: Epson; Brand: EpsonTiming; Frequency Stability: 10PPM; ESR: 40Ohms; Load Capacitance: 9pF; Unit Weight: 0.000564oz; Drive Level: 200uW; Datasheet Version: 12/2015; RoHS: True; Operating Temperature Range: -40Cto+85C; Length: 3.2mm; Tolerance: 10PPM; Width: 2.5mm; Mounting Technology: SurfaceMount; Package Description: 4-Pin Surface Mount Device, Body 3.2 x 2.5 mm; Manufacturer URL: https://www.eea.epson.com/; Factory Pack Quantity: 250; Package Reference: TSX-3225; Height: 0.6mm; Mounting Style: SMD/SMT; Termination Style: SMD/SMT; Datasheet URL: https://support.epson.biz/td/api/doc_check.php?dl=brief_FA-238V_en.pdf; Type: Crystal; Series: TSX-3225; Package / Case: 3.2mmx2.5mm; Product Category: Crystals; Packaging: Reel
footprint EPSON-TSX-3225_V (SMD, 4-Leads, Body 3.2x2.5mm)
pins: 1 X1, 2 GND (power), 3 X2, 4 GND (power)

## CMP-2000-07587-1
designator Y?, comment Frequency: 32.768KHz  (hidden comment: ABS07-120-32.768KHZ-T)
Tuning Fork Crystal, 32.768 KHz, +/- 20 ppm, -40 to 85 degC, 2-Pin SMD, RoHS, Tape and Reel; Manufacturer: Abracon; Case\/Package: SMD/SMT; Series Resistance: 60KOhm; Frequency Tolerance: 20ppm; Load Capacitance: 6pF; ESR (Equivalent Series Resistance): 55KOhm; Max Operating Temperature: 85degC; Width: 0.061inch; Radiation Hardening: No; Lead Free: LeadFree; RoHSCompliant: True; Depth: 1.5mm; Datasheet URL: http://www.abracon.com/Resonators/ABS07-120-32.768kHz-T.pdf; Termination: SMD/SMT; Manufacturer URL: http://www.abracon.com/; Package Quantity: 3000; Packaging: TapeandReel; Number of Pins: 2; Height: 0.035inch; Package Description: 2-Pin Surface Mount Device, Body 3.2 x 1.5 mm; Package Reference: ABS07; Mount: SurfaceMount; Tolerance: 20ppm; Mounting Technology: SurfaceMount; REACH SVHC: NoSVHC; Datasheet Version: 11/2014; Length: 3.2mm; Min Operating Temperature: -40degC
footprint ABRA-ABS07_A_V (SMD, 2-Leads, Body 3.2x1.5mm)
pins: 1, 2

## CMP-AEM10941
designator U?, comment AEM10941
Highly-efficient, regulated dual-output, ambient energy manager for up to 7-cell solar panels with optional primary battery; Manufacturer: e-peas semiconductor; Output Type: Digital; Mounting Type: Surface Mount; Pin Count: 28; Package Type: QFN; Dimensions: 5 x 5 mm; Manufacturer Part Number: AEM10941; Supplier: Digikey; ComponentLink1Description: 1905459.pdf; ComponentLink1URL: http://www.farnell.com/datasheets/1905459.pdf; ComponentLink2Description: 0900766b813ddc9f.pdf; ComponentLink2URL: http://uk.rs-online.com/webdocs/13dd/0900766b813ddc9f.pdf
footprint QFN50P500X500X90-29N
pins: 1 BOOST (power), 2 SWBUCK, 3 BUCK, 4 CFG[2] (in), 5 CFG[1] (in), 6 CFG[0] (in), 7 SELMPP[1] (in), 8 SELMPP[0] (in), 9 FB_PRIM_D, 10 FB_PRIM_U, 11 LVOUT (power), 12 ENHV (in), 13 FB_HV, 14 HVOUT (power), 15 BAL, 16 BATT (power), 17 PRIM (power), 18 ENLV (in), 19 STATUS[2] (out), 20 STATUS[1] (out), 21 STATUS[0] (out), 22 SET_OVCH (in), 23 SET_CHRDY (in), 24 SET_OVDIS (in), 25 SRC (power), 26 FB_COLD (in), 27 BUF_SRC (power), 28 SW_BOOST, 29 GND (power)

## CMP-APTF1616LSEEZGKQBKC
designator LED?, comment APTF1616LSEEZGKQBKC
LED GREEN DIFFUSED 0603 SMD; Manufacturer: Osram / OSRAM Opto Semiconductors; Color: RGB; Millicandela Rating: 3.92mcd; Voltage - Forward (Vf) Typ: 1.7V; Current - Test: 2mA; Wavelength - Dominant: 570nm; Wavelength - Peak: 572nm; Viewing Angle: 160°; Lens Style/Size: Rectangle with Flat Top; Luminous Flux @ Current - Test: 12 mlm; Dynamic Catalog: Surface Mount; Other Names: 754-1972-1-ND; Standard Package: 1; Category: Kingbright; Family: LEDs - Discrete; Series: SmartLED; Lens Type: Diffused; Package / Case: 0606 (1616 Metric); Size / Dimension: 1.70mm L x 0.80mm W; Height: 0.90mm; Mounting Type: Surface Mount; Packaging: Digi-Reel®; Manufacturer Part Number: APTF1616LSEEZGKQBKC; Supplier: Digikey; Supplier Part Number: 754-1972-1-ND
footprint APTF1616LSEEZGKQBKC
pins: 1, 2, 3, 4

## CMP-CL21A106KQCLNNC
designator C?, comment value 10uF  (hidden comment: CAP 10uF 6.3V 0805(2012))
CAP 10uF 6.3V ±20% 0805 (2012 Metric) Thickness 0.95mm SMD; Tolerance: Â±20%; Case-EIA: 0805; Case-Metric: 2012; Rated Voltage: 6.3 V; Technology: SMT; Max Thickness: 0.95 mm
footprint CAPC0805(2012)95_L (Chip Capacitor, Body 2.0x1.2mm, Height 0.95mm, IPC High Density)
pins: 1, 2
1 alternate drawing of the same symbol

## CMP-DRV5032FB
designator U?, comment DRV5032FB
Digital Switch Omnipolar Switch Push-Pull Hall Effect SOT-23-3; Manufacturer: Texas Instruments; Manufacturer Part Number: DRV5032FBDBZR; Packaging: Cut Tape (CT); Part Status: Active; Mounting Type: Surface Mount; Features: -; Operating Temperature: -40°C ~ 85°C; Supplier: Digi-Key; Supplier Part Number: 296-47323-1-ND; ComponentLink1Description: kmr2.pdf; ComponentLink1URL: http://www.ck-components.com/media/1479/kmr2.pdf
footprint SOT95P240X110-3M
pins: 1 VCC (power), 2 OUT (out), 3 GND (power)

## CMP-EPISHINE_PANEL
designator U?, comment Solar Cell Flat - Gen 1
30x50 Flat 4 Cell; Manufacturer: Epishine; Mounting Type: Mechanical; Dimensions: 45 x 58 mm; Manufacturer Part Number: Solar Cell Flat - Gen 1; ComponentLink1Description: 1905459.pdf; ComponentLink1URL: http://www.farnell.com/datasheets/1905459.pdf; ComponentLink2Description: 0900766b813ddc9f.pdf; ComponentLink2URL: http://uk.rs-online.com/webdocs/13dd/0900766b813ddc9f.pdf
footprint EPISHINE_30X50FLAT4CELL
pins: 1 NEG (power), 2 POS (power)
text: Solar Cell Flat

## CMP-GRM21BR60J107ME15L
designator C?, comment value 100uF  (hidden comment: CAP 100uF 6.3V 0805(2012))
CAP 100uF 6.3V ±20% 0805 (2012 Metric) Thickness 1.45mm SMD; Tolerance: Â±20%; Case-EIA: 0805; Case-Metric: 2012; Rated Voltage: 6.3 V; Technology: SMT; Max Thickness: 1.45 mm
footprint CAPC0805(2012)145_L (Chip Capacitor, Body 2.0x1.2mm, Height 1.45mm, IPC High Density)
pins: 1, 2
1 alternate drawing of the same symbol

## CMP-GRM188R61A226ME15D
designator C?, comment value 22uF  (hidden comment: CAP 22uF 10V 0605(1608))
CAP 22uF 10V ±20% 0603 (1608 Metric) Thickness 1mm SMD; Tolerance: Â±20%; Case-EIA: 0603; Case-Metric: 1608; Rated Voltage: 10 V; Technology: SMT; Max Thickness: 1.00 mm
footprint CAPC0603(1608)95_N
pins: 1, 2
1 alternate drawing of the same symbol

## CMP-GRM219R60J476ME44D 
designator C?, comment value 47uF  (hidden comment: CAP 47uF 6.3V 0805(2012))
CAP 47uF 6.3V ±20% 0805 (2012 Metric) Thickness 0.95mm SMD; Tolerance: Â±20%; Case-EIA: 0805; Case-Metric: 2012; Rated Voltage: 6.3 V; Technology: SMT; Max Thickness: 0.95 mm
footprint CAPC0805(2012)95_L (Chip Capacitor, Body 2.0x1.2mm, Height 0.95mm, IPC High Density)
pins: 1, 2
1 alternate drawing of the same symbol

## CMP-KMT021NGJLHS
designator SW?, comment KMT021NGJLHS
SWITCH TACTILE SPST-NO 0.05A 32V; Manufacturer: C&K Components; Switch Function: Off-Mom; Contact Rating @ Voltage: 0.05A @ 32VDC; Actuator Type: Standard; Actuator Height off PCB, from Pins: 0.65mm; Actuator Orientation: Top Actuated; Outline: 3.00mm x 2.60mm; Illumination: Non-Illuminated; Operating Force: 160gf; Switch Travel: 0.15mm; Mechanical Life: 300,000 Cycles; Packaging: Cut Tape (CT); Part Status: Active; Circuit: SPST-NO; Mounting Type: Surface Mount; Termination Style: J-Lead; Illumination Voltage (Nominal): -; Illumination Type, Color: -; Ingress Protection: -; Features: -; Actuator Material: -; Operating Temperature: -40°C ~ 85°C; Manufacturer Part Number: KMT021NGJLHS; Supplier: Digi-Key; Supplier Part Number: CKN10289CT-ND; ComponentLink1Description: kmr2.pdf; ComponentLink1URL: http://www.ck-components.com/media/1479/kmr2.pdf
footprint KMT 0 Series (Tactile Switch SPST-NO Top Actuated Surface Mount)
pins: 1 T1, 2 T2, 3 T3, 4 T3

## CMP-LMK316BBJ107ML-T
designator C?, comment value 100uF  (hidden comment: CAP 100uF 10V 1206(3216))
CAP 100uF 10V ±20% 1206 (3216 Metric) Thickness 1.45mm SMD; Tolerance: Â±20%; Case-EIA: 1206; Case-Metric: 3216; Rated Voltage: 10 V; Technology: SMT; Max Thickness: 1.45 mm
footprint CAPC1206(3216)145_N
pins: 1, 2
1 alternate drawing of the same symbol

## CMP-MLZ1608M100WT
designator L?, comment Inductance: 10uh  (hidden comment: MLZ1608M100WT)
FIXED IND 10UH 250MA 1.05 OHM; Core Material: Ferrite; Tolerance: 20%; Shielding: Unshielded; Self Resonant Frequency: 2MHz; DC Resistance (DCR): 1.05R; Max DC Current: 90mA; Mount: Surface Mount; Case/Package: 0603; Case Code (Metric): 1608; Case Code (Imperial): 0603; Min Operating Temperature: -40°C; Max Operating Temperature: 125°C; Package Quantity: 2000; Current Rating: 250mA; Packaging: Tape and Reel; Inductance Tolerance: 20%; Test Frequency: 2MHz; Termination: SMD/SMT; DC Current: 90mA; Military Standard: Not; Length: 1.6mm; Height: 0.95mm; Width: 0.049inch; Depth: 0.95mm; Radiation Hardening: No; REACH SVHC: Unknown; Lead Free: Lead Free; Halogen Free: Halogen Free
footprint INDC1608X95N
pins: 1, 2